# Altium schematic symbol library TSW-101-20-G-S.SchLib: 1 symbol
Pins are listed as number, name and electrical type; pins without a type are passive.

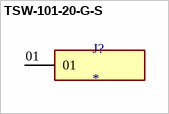
[diagram p0: symbol TSW-101-20-G-S]

## TSW-101-20-G-S
designator J?
MP: TSW-101-20-G-S; Package: None; Price: None; Value: *; Availability: Unavailable
footprint SAMTEC_TSW-101-20-G-S
pins: 01